# Altium integrated library SHLibrary.IntLib: 36 symbols
Pins are listed as number, name and electrical type; pins without a type are passive.

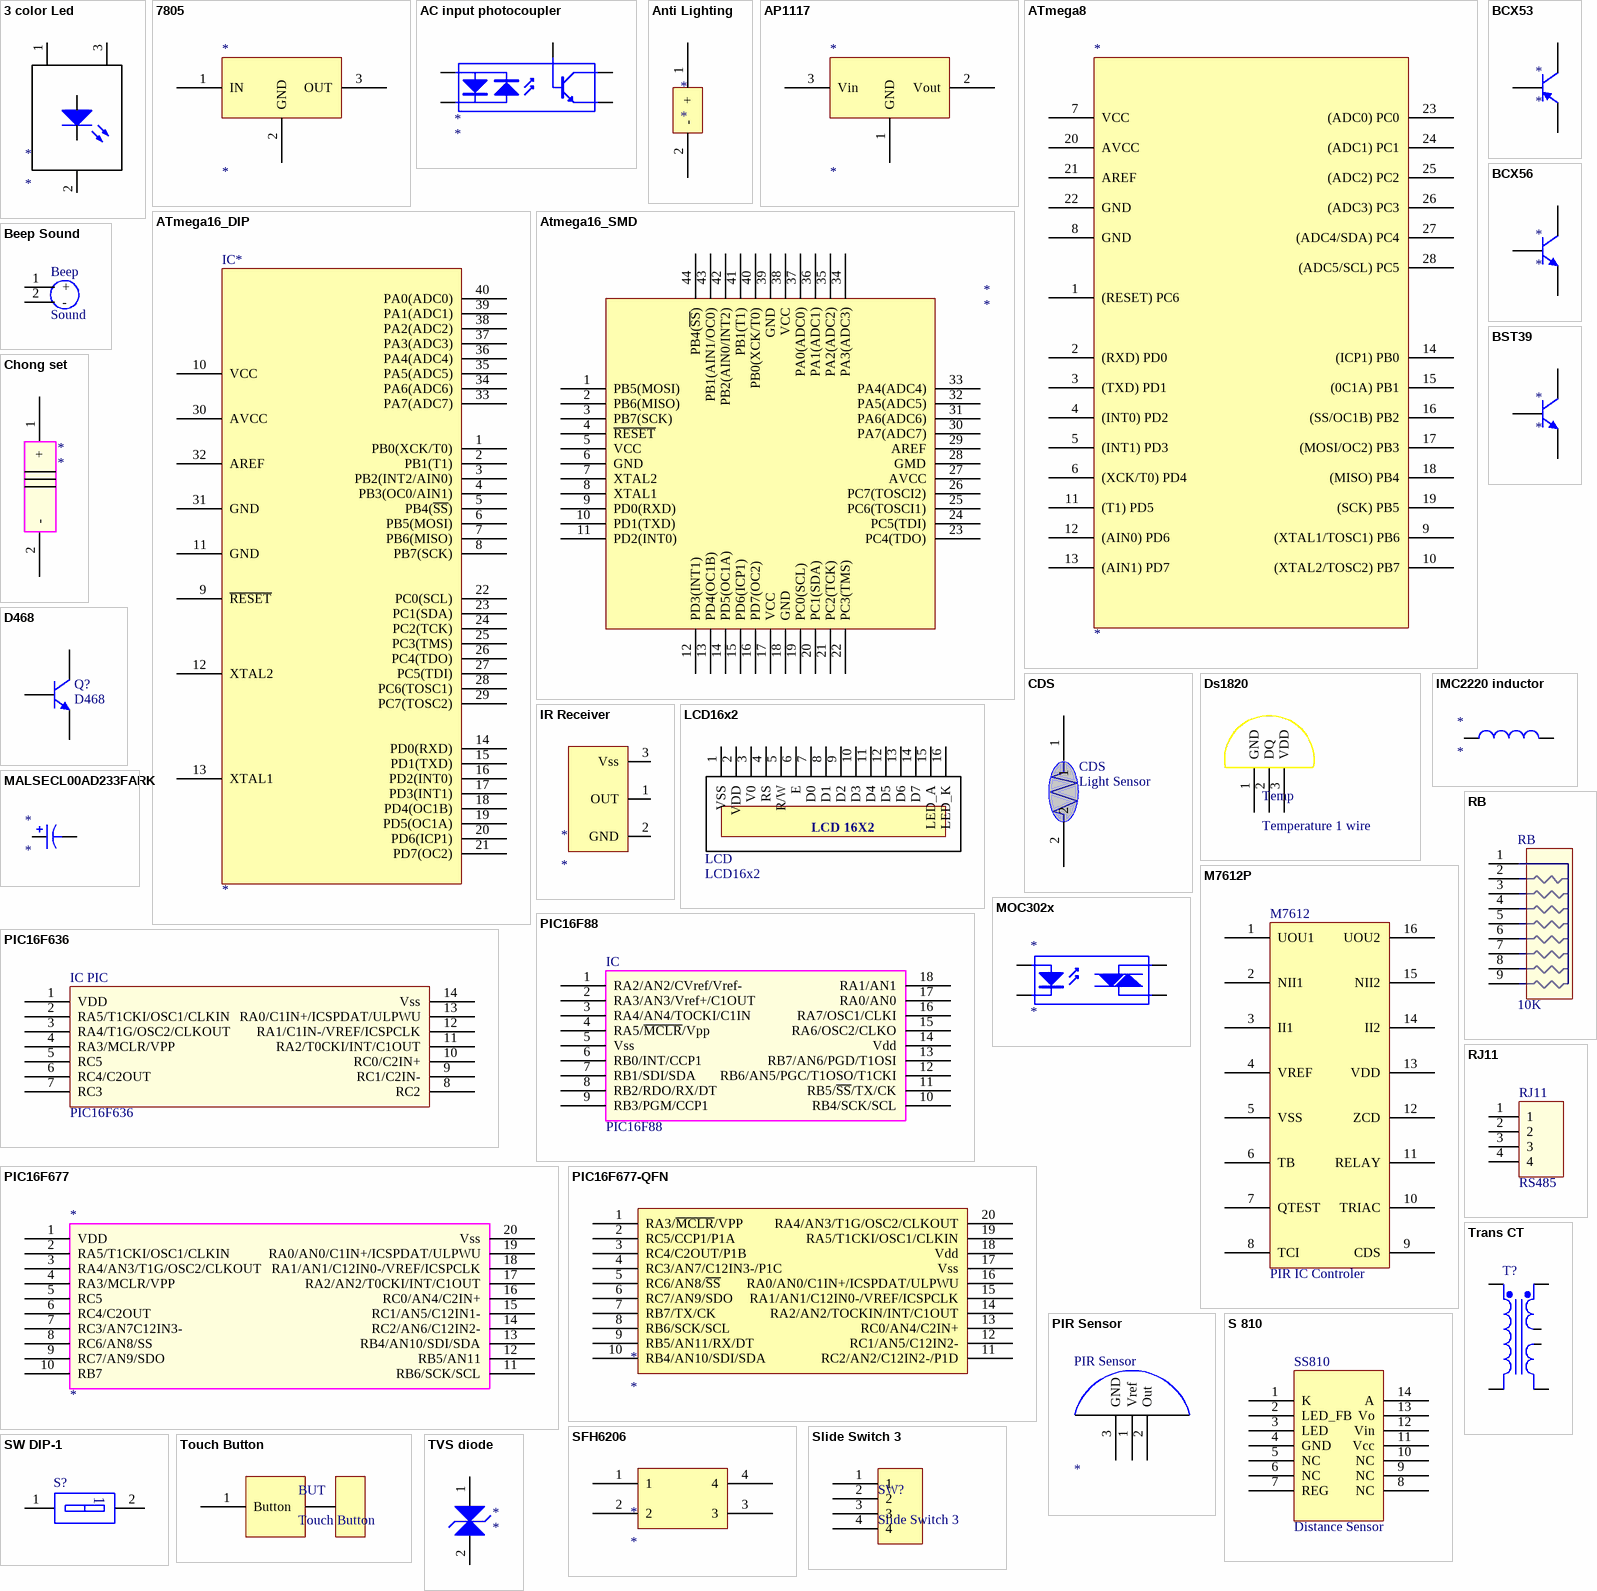
[diagram p0: symbols 3 color Led to TVS diode]

## 3 color Led
designator *
footprint LED 3 COLOR
pins: 1, 2, 3

## 7805
designator *
footprint 78xx DIP (DIP)
pins: 1 IN, 2 GND, 3 OUT

## AC input photocoupler
designator *
footprint MOC302x
footprint H11AAx
pins: 1 A "Anode", 2 K "Cathode", 4 E "Emitter", 5 C "Collector", 6 B "Base"

## Anti Lighting
designator *
pins: 1 +, 2 -

## AP1117
designator *
footprint SOT223
pins: 1 GND, 2 Vout, 3 Vin

## ATmega8
designator *
footprint DIP28 (ATMEL2864)
pins: 1 (RESET) PC6, 2 (RXD) PD0, 3 (TXD) PD1, 4 (INT0) PD2, 5 (INT1) PD3, 6 (XCK/T0) PD4, 7 VCC, 8 GND, 9 (XTAL1/TOSC1) PB6, 10 (XTAL2/TOSC2) PB7, 11 (T1) PD5, 12 (AIN0) PD6, 13 (AIN1) PD7, 14 (ICP1) PB0, 15 (0C1A) PB1, 16 (SS/OC1B) PB2, 17 (MOSI/OC2) PB3, 18 (MISO) PB4, 19 (SCK) PB5, 20 AVCC, 21 AREF, 22 GND, 23 (ADC0) PC0, 24 (ADC1) PC1, 25 (ADC2) PC2, 26 (ADC3) PC3, 27 (ADC4/SDA) PC4, 28 (ADC5/SCL) PC5

## ATmega16_DIP
designator IC*
ATMEGA16
footprint ATmega16_DIP
pins: 1 PB0(XCK/T0), 2 PB1(T1), 3 PB2(INT2/AIN0), 4 PB3(OC0/AIN1), 5 PB4(~{SS}), 6 PB5(MOSI), 7 PB6(MISO), 8 PB7(SCK), 9 ~{RESET}, 10 VCC, 11 GND, 12 XTAL2, 13 XTAL1, 14 PD0(RXD), 15 PD1(TXD), 16 PD2(INT0), 17 PD3(INT1), 18 PD4(OC1B), 19 PD5(OC1A), 20 PD6(ICP1), 21 PD7(OC2), 22 PC0(SCL), 23 PC1(SDA), 24 PC2(TCK), 25 PC3(TMS), 26 PC4(TDO), 27 PC5(TDI), 28 PC6(TOSC1), 29 PC7(TOSC2), 30 AVCC, 31 GND, 32 AREF, 33 PA7(ADC7), 34 PA6(ADC6), 35 PA5(ADC5), 36 PA4(ADC4), 37 PA3(ADC3), 38 PA2(ADC2), 39 PA1(ADC1), 40 PA0(ADC0)

## Atmega16_SMD
designator *
footprint ATMEGA16_SMD (Thin QFP, 44-Leads, Body 10x10mm, Pitch 0.8mm, IPC Low Density)
pins: 1 PB5(MOSI), 2 PB6(MISO), 3 PB7(SCK), 4 ~{RESET}, 5 VCC, 6 GND, 7 XTAL2, 8 XTAL1, 9 PD0(RXD), 10 PD1(TXD), 11 PD2(INT0), 12 PD3(INT1), 13 PD4(OC1B), 14 PD5(OC1A), 15 PD6(ICP1), 16 PD7(OC2), 17 VCC, 18 GND, 19 PC0(SCL), 20 PC1(SDA), 21 PC2(TCK), 22 PC3(TMS), 23 PC4(TDO), 24 PC5(TDI), 25 PC6(TOSCI1), 26 PC7(TOSCI2), 27 AVCC, 28 GMD, 29 AREF, 30 PA7(ADC7), 31 PA6(ADC6), 32 PA5(ADC5), 33 PA4(ADC4), 34 PA3(ADC3), 35 PA2(ADC2), 36 PA1(ADC1), 37 PA0(ADC0), 38 VCC, 39 GND, 40 PB0(XCK/T0), 41 PB1(T1), 42 PB2(AIN0/INT2), 43 PB1(AIN1/OC0), 44 PB4(~{SS})

## BCX53
designator *
pins: 1 E, 2 C, 3 B

## BCX56
designator *
pins: 1 E, 2 C, 3 B

## Beep Sound
designator Beep, comment Sound
Phat tieng keu beep
footprint BEEP (COI CHIP)
pins: 1 +, 2 -

## BST39
designator *
footprint SOT89 (H4.6mm, W4.25mm, T1.6mm)
pins: 1 E, 2 C, 3 B

## CDS
designator CDS, comment Light Sensor
footprint Light Sensor (LLS05 - A)
pins: 1, 2

## Chong set
designator *
footprint Chong set
pins: 1 +, 2 -

## D468
designator Q?
footprint D468 - 2 (TO, Flat Index; 3 In-Line, Axial Leads; Body Dia. 4.5mm; Leads 0.51 x 0.48 mm (max))
footprint D468 dip (TO, Flat Index; 3 In-Line, Axial Leads; Body Dia. 4.5mm; Leads 0.51 x 0.48 mm (max))
pins: 1 E, 2 C, 3 B

## Ds1820
designator Temp, comment Temperature 1 wire
pins: 1 GND, 2 DQ, 3 VDD

## IMC2220 inductor
designator *
footprint imc2220 (IMC2220 inductor series)
pins: 1, 2

## IR Receiver
designator *
footprint IR Receiver
pins: 1 OUT, 2 GND, 3 Vss

## LCD16x2
designator LCD
footprint LCD 2
footprint LCD16X2
footprint LCD_16x2 (Test)
pins: 1 VSS, 2 VDD, 3 V0, 4 RS, 5 R/W, 6 E, 7 D0, 8 D1, 9 D2, 10 D3, 11 D4, 12 D5, 13 D6, 14 D7, 15 LED_A, 16 LED_K
text: LCD 16X2

## M7612P
designator M7612, comment PIR IC Controler
PIR Controler
footprint DIP-16 (DIP; 16 Leads; Row Spacing 7.62 mm; Pitch 2.54 mm)
pins: 1 UOU1, 2 NII1, 3 II1, 4 VREF, 5 VSS, 6 TB, 7 QTEST, 8 TCI, 9 CDS, 10 TRIAC, 11 RELAY, 12 ZCD, 13 VDD, 14 II2, 15 NII2, 16 UOU2

## MALSECL00AD233FARK
designator *
footprint C 6.3x5.8
pins: 1, 2

## MOC302x
designator *
footprint MOC302x
pins: 1 A "Anode", 2 K "Cathode", 4 Main term "Emitter", 6 Main tern "Collector"

## PIC16F88
designator IC
pins: 1 RA2/AN2/CVref/Vref-, 2 RA3/AN3/Vref+/C1OUT, 3 RA4/AN4/TOCKI/C1IN, 4 RA5/~{MCLR}/Vpp, 5 Vss, 6 RB0/INT/CCP1, 7 RB1/SDI/SDA, 8 RB2/RDO/RX/DT, 9 RB3/PGM/CCP1, 10 RB4/SCK/SCL, 11 RB5/~{SS}/TX/CK, 12 RB6/AN5/PGC/T1OSO/T1CKI, 13 RB7/AN6/PGD/T1OSI, 14 Vdd, 15 RA6/OSC2/CLKO, 16 RA7/OSC1/CLKI, 17 RA0/AN0, 18 RA1/AN1

## PIC16F636
designator IC PIC
pins: 1 VDD, 2 RA5/T1CKI/OSC1/CLKIN, 3 RA4/T1G/OSC2/CLKOUT, 4 RA3/MCLR/VPP, 5 RC5, 6 RC4/C2OUT, 7 RC3, 8 RC2, 9 RC1/C2IN-, 10 RC0/C2IN+, 11 RA2/T0CKI/INT/C1OUT, 12 RA1/C1IN-/VREF/ICSPCLK, 13 RA0/C1IN+/ICSPDAT/ULPWU, 14 Vss

## PIC16F677
designator *
pins: 1 VDD, 2 RA5/T1CKI/OSC1/CLKIN, 3 RA4/AN3/T1G/OSC2/CLKOUT, 4 RA3/MCLR/VPP, 5 RC5, 6 RC4/C2OUT, 7 RC3/AN7C12IN3-, 8 RC6/AN8/SS, 9 RC7/AN9/SDO, 10 RB7, 11 RB6/SCK/SCL, 12 RB5/AN11, 13 RB4/AN10/SDI/SDA, 14 RC2/AN6/C12IN2-, 15 RC1/AN5/C12IN1-, 16 RC0/AN4/C2IN+, 17 RA2/AN2/T0CKI/INT/C1OUT, 18 RA1/AN1/C12IN0-/VREF/ICSPCLK, 19 RA0/AN0/C1IN+/ICSPDAT/ULPWU, 20 Vss

## PIC16F677-QFN
designator *
footprint QFN20
pins: 1 RA3/~{MCLR}/VPP, 2 RC5/CCP1/P1A, 3 RC4/C2OUT/P1B, 4 RC3/AN7/C12IN3-/P1C, 5 RC6/AN8/~{SS}, 6 RC7/AN9/SDO, 7 RB7/TX/CK, 8 RB6/SCK/SCL, 9 RB5/AN11/RX/DT, 10 RB4/AN10/SDI/SDA, 11 RC2/AN2/C12IN2-/P1D, 12 RC1/AN5/C12IN2-, 13 RC0/AN4/C2IN+, 14 RA2/AN2/TOCKIN/INT/C1OUT, 15 RA1/AN1/C12IN0-/VREF/ICSPCLK, 16 RA0/AN0/C1IN+/ICSPDAT/ULPWU, 17 Vss, 18 Vdd, 19 RA5/T1CKI/OSC1/CLKIN, 20 RA4/AN3/T1G/OSC2/CLKOUT

## PIR Sensor
designator PIR Sensor
footprint PIR Sensor (DS203B)
pins: 1 Vref, 2 Out, 3 GND

## RB
designator RB, comment 10K
RESISTOR BANK
footprint RB 9x1 (Tro Bang)
pins: 1, 2, 3, 4, 5, 6, 7, 8, 9

## RJ11
designator RJ11, comment RS485
pins: 1, 2, 3, 4

## S 810
designator SS810, comment Distance Sensor
Digital Distance Sensor  10cm
footprint S 801 (Distance Sensor 10cm)
pins: 1 K, 2 LED_FB, 3 LED, 4 GND, 5 NC, 6 NC, 7 REG, 8 NC, 9 NC, 10 NC, 11 Vcc, 12 Vin, 13 Vo, 14 A

## SFH6206
designator *
footprint SMD 4
pins: 1, 2, 3, 4

## Slide Switch 3
designator SW?
footprint Slide Switch 3 (1-2  2-3  2-4)
pins: 1, 2, 3, 4

## SW DIP-1
designator S?
DIP Switch, 2 Position, SPST; Published: 24-Mar-1999; LatestRevisionDate: 17-Jul-2002; LatestRevisionNote: Re-released for DXP Platform.; PackageReference: DIP-4; Publisher: Altium Limited
footprint DIP-4 (DIP; 4 Leads; Row Spacing 7.62 mm; Pitch 2.54 mm)
simulation model dpsw2 (Spice Subcircuit)
pins: 1 A1, 2 A2

## Touch Button
designator BUT
pins: 1 Button

## Trans CT
designator T?
Center-Tapped Transformer (Coupled Inductor Model); Published: 8-Jun-2000; LatestRevisionDate: 17-Jul-2002; LatestRevisionNote: Re-released for DXP Platform.; PackageReference: TRF_5; Publisher: Altium Limited
footprint Transformer SMD
pins: 1 Pri+, 2 SecCT, 3 SecCT, 4 Pri-, 5 Sec-, 8 Sec+

## TVS diode
designator *
footprint Diode (Muoi)
footprint DO215 AA
pins: 1 Anot, 2 Katot